# EAGLE library part 25Q40 (library wifi)
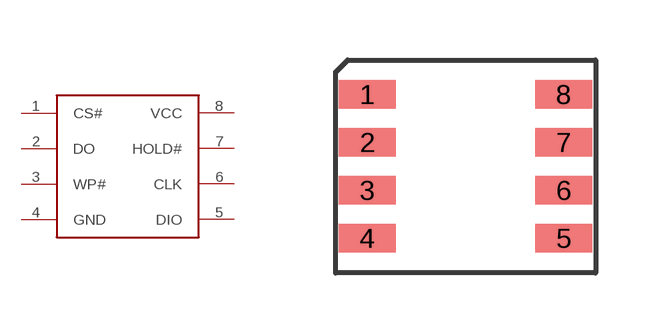
[diagram p0: symbol with the pads of SOP8; footprint SOP8]

Designator prefix U

## 25Q40  [SOP8]
1  CS#
2  DO
3  WP#
4  GND
5  DIO
6  CLK
7  HOLD#
8  VCC

## Footprint SOP8 (pad centres in mm)
smd 1.422 x 0.711: 1 -2.454,1.8; 2 -2.454,0.6; 3 -2.454,-0.6; 4 -2.454,-1.8; 5 2.454,-1.8; 6 2.454,-0.6; 7 2.454,0.6; 8 2.454,1.8